# Altium footprint library SSQ-103-03-T-D.PcbLib: 1 footprints
Each footprint in its own frame and in the unit in brackets; x right, y up, seen from the top. Pads: shape width x height; smd on the part's side, far side on the other; paste and mask are expansions set on the pad; w line width, h text height; cw(c..) or ccw(c..) is an arc to the next point about the centre after c.
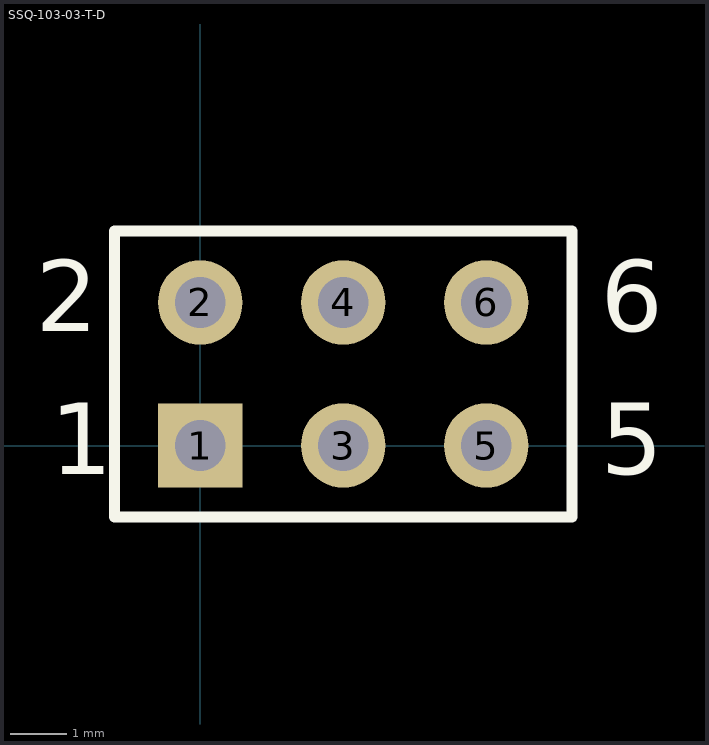
[diagram p0: the footprint, top view; thin cyan lines are the x and y axes]

## SSQ-103-03-T-D [mm] "Connector; Header; 3x2 Position"
pads (6):
  rect 1.5x1.5 hole 0.9: 1(0,0)
  round 1.5 hole 0.9: 2(0,2.54) 3(2.54,0) 4(2.54,2.54) 5(5.08,0) 6(5.08,2.54)
Top Overlay:
  lines w0.2: 1.482,-1.27 6.604,-1.27 6.604,3.81 -1.524,3.81 -1.524,-1.27 6.35,-1.27
  text "1" at -2.667,-0.508 h1.27
  text "2" at -2.921,2.032 h1.27
  text "5" at 7.112,-0.508 h1.27
  text "6" at 7.112,2.032 h1.27
3D body "SSQ-103-03-T-D.stp": height 8.51, standoff -10.01, extent -1.524,-1.206 6.604,3.747